# EAGLE library part 28*16A (library microchip-7)
CMOS EPROM 16 K (2 K x 8) Source: ww1.microchip.com/downloads/en/DeviceDoc/11125J.pdf
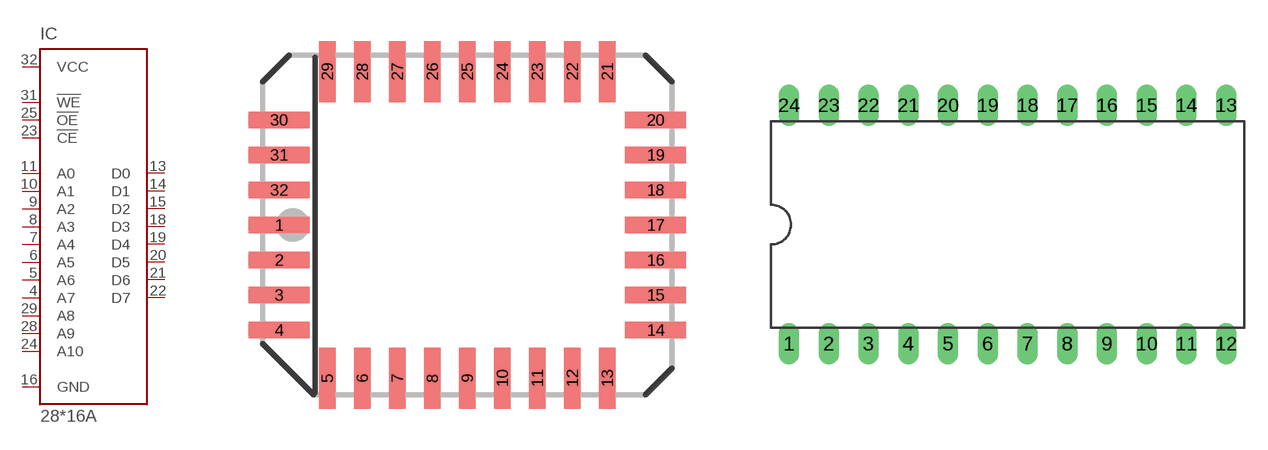
[diagram p35: symbol with the pads of PLCC-32; footprints PLCC-32, DIL24-6]

Designator prefix IC

## 28C16AL  [PLCC-32]
4  A7  in
5  A6  in
6  A5  in
7  A4  in
8  A3  in
9  A2  in
10  A1  in
11  A0  in
13  D0  hiz
14  D1  hiz
15  D2  hiz
16  GND  pwr
18  D3  hiz
19  D4  hiz
20  D5  hiz
21  D6  hiz
22  D7  hiz
23  !CE  in
24  A10  in
25  !OE  in
28  A9  in
29  A8  in
31  !WE  in
32  VCC  pwr

## 28C16AP  [DIL24-6]
1  A7  in
2  A6  in
3  A5  in
4  A4  in
5  A3  in
6  A2  in
7  A1  in
8  A0  in
9  D0  hiz
10  D1  hiz
11  D2  hiz
12  GND  pwr
13  D3  hiz
14  D4  hiz
15  D5  hiz
16  D6  hiz
17  D7  hiz
18  !CE  in
19  A10  in
20  !OE  in
21  !WE  in
22  A9  in
23  A8  in
24  VCC  pwr

## 28C16ATS  [TSOP28]
1  !OE  in
3  A9  in
4  A8  in
6  !WE  in
7  VCC  pwr
10  A7  in
11  A6  in
12  A5  in
13  A4  in
14  A3  in
15  A2  in
16  A1  in
17  A0  in
18  D0  hiz
19  D1  hiz
20  D2  hiz
21  GND  pwr
22  D3  hiz
23  D4  hiz
24  D5  hiz
25  D6  hiz
26  D7  hiz
27  !CE  in
28  A10  in

## 28C16AVS  [VSOP28-8X13]
3  A7  in
4  A6  in
5  A5  in
6  A4  in
7  A3  in
8  A2  in
9  A1  in
10  A0  in
11  D0  hiz
12  D1  hiz
13  D2  hiz
14  GND  pwr
15  D3  hiz
16  D4  hiz
17  D5  hiz
18  D6  hiz
19  D7  hiz
20  !CE  in
21  A10  in
22  !OE  in
24  A9  in
25  A8  in
27  !WE  in
28  VCC  pwr

## Footprint PLCC-32 (pad centres in mm)
PLASTIC LEADED CHIP CARRIER rectangle, package type L
smd 2.2 x 0.6: 1 -6.83,0; 2 -6.83,-1.27; 3 -6.83,-2.54; 4 -6.83,-3.81; 14 6.83,-3.81; 15 6.83,-2.54; 16 6.83,-1.27; 17 6.83,0; 18 6.83,1.27; 19 6.83,2.54; 20 6.83,3.81; 30 -6.83,3.81; 31 -6.83,2.54; 32 -6.83,1.27
smd 0.6 x 2.2: 5 -5.08,-5.56; 6 -3.81,-5.56; 7 -2.54,-5.56; 8 -1.27,-5.56; 9 0,-5.56; 10 1.27,-5.56; 11 2.54,-5.56; 12 3.81,-5.56; 13 5.08,-5.56; 21 5.08,5.56; 22 3.81,5.56; 23 2.54,5.56; 24 1.27,5.56; 25 0,5.56; 26 -1.27,5.56; 27 -2.54,5.56; 28 -3.81,5.56; 29 -5.08,5.56

## Footprint DIL24-6 (pad centres in mm)
Dual In Line package type P
drill 0.813 long: 1 -13.97,-7.62; 2 -11.43,-7.62; 3 -8.89,-7.62; 4 -6.35,-7.62; 5 -3.81,-7.62; 6 -1.27,-7.62; 7 1.27,-7.62; 8 3.81,-7.62; 9 6.35,-7.62; 10 8.89,-7.62; 11 11.43,-7.62; 12 13.97,-7.62; 13 13.97,7.62; 14 11.43,7.62; 15 8.89,7.62; 16 6.35,7.62; 17 3.81,7.62; 18 1.27,7.62; 19 -1.27,7.62; 20 -3.81,7.62; 21 -6.35,7.62; 22 -8.89,7.62; 23 -11.43,7.62; 24 -13.97,7.62

## Footprint TSOP28 (pad centres in mm)
Thin Small Outline Package Gull Wing type I, package type TS
smd 0.3 x 1: 1 -3.75,-9.7; 2 -3.25,-9.7; 3 -2.75,-9.7; 4 -2.25,-9.7; 5 -1.75,-9.7; 6 -1.25,-9.7; 7 -0.75,-9.7; 8 0.75,-9.7; 9 1.25,-9.7; 10 1.75,-9.7; 11 2.25,-9.7; 12 2.75,-9.7; 13 3.25,-9.7; 14 3.75,-9.7; 15 3.75,9.7; 16 3.25,9.7; 17 2.75,9.7; 18 2.25,9.7; 19 1.75,9.7; 20 1.25,9.7; 21 0.75,9.7; 22 -0.75,9.7; 23 -1.25,9.7; 24 -1.75,9.7; 25 -2.25,9.7; 26 -2.75,9.7; 27 -3.25,9.7; 28 -3.75,9.7

## Footprint VSOP28-8X13 (pad centres in mm)
Very Small Outline Package 8 x 13.4 mm, package type VS
smd 0.3 x 1.1: 1 0.275,-6.45; 2 0.825,-6.45; 3 1.375,-6.45; 4 1.925,-6.45; 5 2.475,-6.45; 6 3.025,-6.45; 7 3.575,-6.45; 8 3.575,6.45; 9 3.025,6.45; 10 2.475,6.45; 11 1.925,6.45; 12 1.375,6.45; 13 0.825,6.45; 14 0.275,6.45; 15 -0.275,6.45; 16 -0.825,6.45; 17 -1.375,6.45; 18 -1.925,6.45; 19 -2.475,6.45; 20 -3.025,6.45; 21 -3.575,6.45; 22 -3.575,-6.45; 23 -3.025,-6.45; 24 -2.475,-6.45; 25 -1.925,-6.45; 26 -1.375,-6.45; 27 -0.825,-6.45; 28 -0.275,-6.45